# EAGLE library part TPA3118D2DAPR (library TPA3118D2DAPR)
Audio Amplifiers 50W Stereo Class-D Audio Amp Source: Datasheet <https://www.ti.com/lit/ds/symlink/tpa3118d2.pdf?ts=1685687683742&ref_url=https%3A%2F%2Fwww.ti.com%2Fsitesearch%2Fen-us%2Fdocs%2Funiversalsearch.tsp%3FlangPref%3Den-US%26searchTerm%3DTPA3118D2DAPR%26nr%3D12>
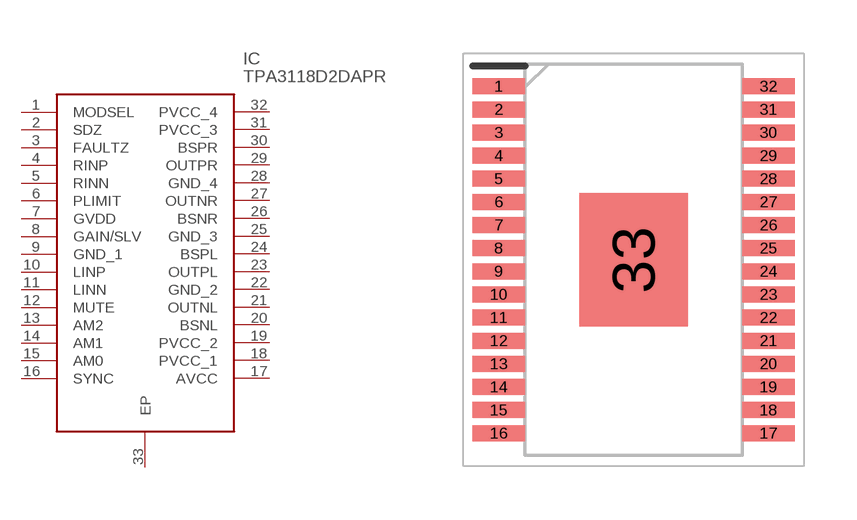
[diagram p0: symbol with the pads of SOP65P810X120-33N; footprint SOP65P810X120-33N]

Designator prefix IC

## TPA3118D2DAPR (Description: Audio Amplifiers 50W Stereo Class-D Audio Amp; Height: 1.2mm; Manufacturer_Name: Texas Instruments; Manufacturer_Part_Number: TPA3118D2DAPR; Mouser_Part_Number: 595-TPA3118D2DAPR; Mouser_Price-Stock: https://www.mouser.co.uk/ProductDetail/Texas-Instruments/TPA3118D2DAPR?qs=3AcK5DacLbr6SZY8wY9L6g%3D%3D)  [SOP65P810X120-33N]
1  MODSEL
2  SDZ
3  FAULTZ
4  RINP
5  RINN
6  PLIMIT
7  GVDD
8  GAIN/SLV
9  GND_1
10  LINP
11  LINN
12  MUTE
13  AM2
14  AM1
15  AM0
16  SYNC
17  AVCC
18  PVCC_1
19  PVCC_2
20  BSNL
21  OUTNL
22  GND_2
23  OUTPL
24  BSPL
25  GND_3
26  BSNR
27  OUTNR
28  GND_4
29  OUTPR
30  BSPR
31  PVCC_3
32  PVCC_4
33  EP

## Footprint SOP65P810X120-33N (pad centres in mm)
DAP0032C
smd 1.475 x 0.45: 1 -3.788,4.875; 2 -3.788,4.225; 3 -3.788,3.575; 4 -3.788,2.925; 5 -3.788,2.275; 6 -3.788,1.625; 7 -3.788,0.975; 8 -3.788,0.325; 9 -3.788,-0.325; 10 -3.788,-0.975; 11 -3.788,-1.625; 12 -3.788,-2.275; 13 -3.788,-2.925; 14 -3.788,-3.575; 15 -3.788,-4.225; 16 -3.788,-4.875; 17 3.788,-4.875; 18 3.788,-4.225; 19 3.788,-3.575; 20 3.788,-2.925; 21 3.788,-2.275; 22 3.788,-1.625; 23 3.788,-0.975; 24 3.788,-0.325; 25 3.788,0.325; 26 3.788,0.975; 27 3.788,1.625; 28 3.788,2.275; 29 3.788,2.925; 30 3.788,3.575; 31 3.788,4.225; 32 3.788,4.875
smd 3.04 x 3.74: 33 0,0